# EAGLE library part SKAITMUO (library ~~mano)
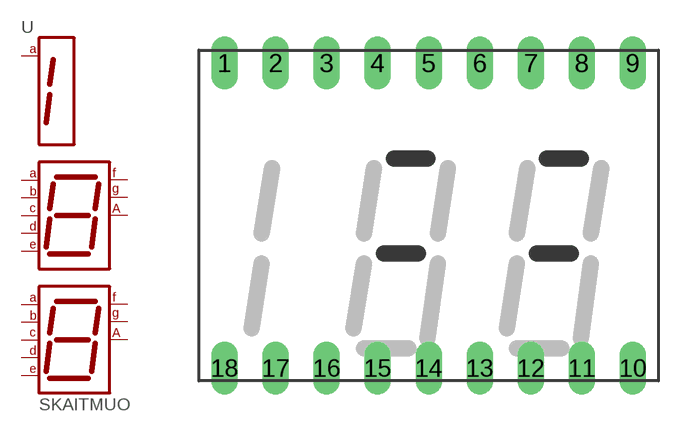
[diagram p0: symbol with the pads of SKAITMUO; footprint SKAITMUO]

Designator prefix -

## SKAITMUO  [SKAITMUO]
1  E2  pas
2  G2  pas
3  F2  pas
4  A2  pas
5  CA2  pas
6  CA3  pas
7  E3  pas
8  F3  pas
9  A3  pas
10  A1  pas
11  B3  pas
12  G3  pas
13  C3  pas
14  D3  pas
16  B2  pas
17  C2  pas
18  D2  pas

## Footprint SKAITMUO (pad centres in mm)
drill 0.813 long: 1 -7.62,9.12; 2 -5.08,9.12; 3 -2.54,9.12; 4 0,9.12; 5 2.54,9.12; 6 5.08,9.12; 7 7.62,9.12; 8 10.16,9.12; 9 12.7,9.12; 10 12.7,-6.08; 11 10.16,-6.08; 12 7.62,-6.08; 13 5.08,-6.08; 14 2.54,-6.08; 15 0,-6.08; 16 -2.54,-6.08; 17 -5.08,-6.08; 18 -7.62,-6.08